# EAGLE library part NUD4011DR2G (library Smile_Shade)
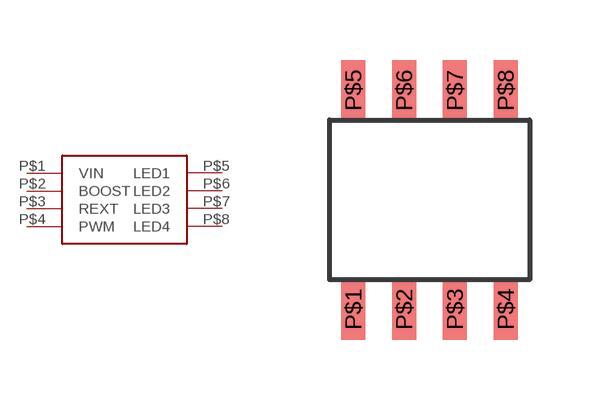
[diagram p4: symbol with the pads of 8SOIC; footprint 8SOIC]

Designator prefix -

## NUD4011DR2G  [8SOIC]
P$1  VIN
P$2  BOOST
P$3  REXT
P$4  PWM
P$5  LED1
P$6  LED2
P$7  LED3
P$8  LED4

## Footprint 8SOIC (pad centres in mm)
smd 0.6 x 1.52: P$1 -1.905,-2.74; P$2 -0.635,-2.74; P$3 0.635,-2.74; P$4 1.905,-2.74; P$5 -1.905,2.74; P$6 -0.635,2.74; P$7 0.635,2.74; P$8 1.905,2.74